# Altium footprint library BAS516.PcbLib: 3 footprints
Each footprint in its own frame and in the unit in brackets; x right, y up, seen from the top. Pads: shape width x height; smd on the part's side, far side on the other; paste and mask are expansions set on the pad; w line width, h text height; cw(c..) or ccw(c..) is an arc to the next point about the centre after c.
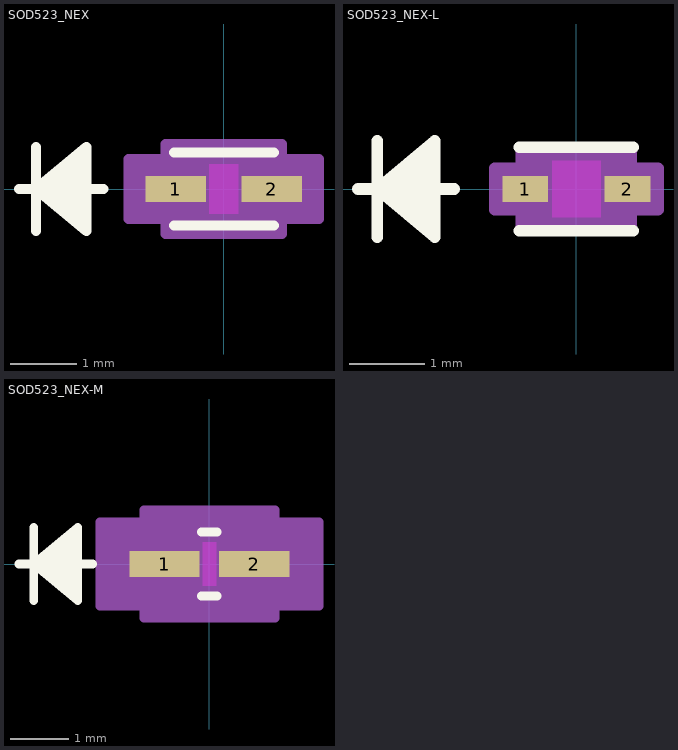
[diagram p0: the footprints below, top view; thin cyan lines are the x and y axes]

## SOD523_NEX [mm]
pads (2):
  rect 0.911x0.391 smd paste+0 mask+0: 1(-0.725,0) 2(0.725,0)
Top Overlay:
  lines w0.152: -3.086,0 -1.816,0 ; -2.832,-0.635 -2.832,0.635 ; -2.07,-0.508 -2.832,0 ; -2.07,-0.381 -2.832,0 ; -2.07,-0.254 -2.832,0 ; -2.07,-0.127 -2.832,0 ; -2.07,0.127 -2.832,0 ; -2.07,0.254 -2.832,0 ; -2.07,0.381 -2.832,0 ; -2.07,0.508 -2.832,0 ; -0.752,-0.552 0.752,-0.552 ; -0.752,0.552 0.752,0.552 ; -2.832,0 -2.07,0.635 -2.07,-0.635 -2.832,0
Keep-Out Layer:
  region: -0.219,-0.374 -0.219,0.374 0.219,0.374 0.219,-0.374
Mechanical 13:
  lines w0.025: -3.086,0 -1.816,0 ; -2.832,-0.635 -2.832,0.635 ; -2.07,-0.508 -2.832,0 ; -2.07,-0.381 -2.832,0 ; -2.07,-0.254 -2.832,0 ; -2.07,-0.127 -2.832,0 ; -2.07,0.127 -2.832,0 ; -2.07,0.254 -2.832,0 ; -2.07,0.381 -2.832,0 ; -2.07,0.508 -2.832,0 ; -0.625,-0.212 -0.413,-0.425 ; -0.625,0.212 -0.413,0.425 ; -2.832,0 -2.07,0.635 -2.07,-0.635 -2.832,0 ; -0.825,-0.17 -0.825,0.17 -0.625,0.17 -0.625,-0.17 -0.825,-0.17 ; -0.625,-0.425 0.625,-0.425 0.625,0.425 -0.625,0.425 -0.625,-0.425 ; 0.625,-0.17 0.625,0.17 0.825,0.17 0.825,-0.17 0.625,-0.17
Mechanical 15:
  region: -0.879,-0.449 -1.435,-0.449 -1.435,0.449 -0.879,0.449 -0.879,0.679 0.879,0.679 0.879,0.449 1.435,0.449 1.435,-0.449 0.879,-0.449 0.879,-0.679 -0.879,-0.679
  lines w0.152: -1.435,-0.449 -1.435,0.449 -0.879,0.449 -0.879,0.679 0.879,0.679 0.879,0.449 1.435,0.449 1.435,-0.449 0.879,-0.449 0.879,-0.679 -0.879,-0.679 -0.879,-0.449 -1.435,-0.449
3D body "SOD523_NEX.step": height 1.2, standoff 0, extent -0.905,-0.425 0.905,0.425

## SOD523_NEX-L [mm]
pads (2):
  rect 0.606x0.34 smd paste+0 mask+0: 1(-0.674,0) 2(0.674,0)
Top Overlay:
  lines w0.152: -2.882,0 -1.612,0 ; -2.628,-0.635 -2.628,0.635 ; -1.866,-0.508 -2.628,0 ; -1.866,-0.381 -2.628,0 ; -1.866,-0.254 -2.628,0 ; -1.866,-0.127 -2.628,0 ; -1.866,0.127 -2.628,0 ; -1.866,0.254 -2.628,0 ; -1.866,0.381 -2.628,0 ; -1.866,0.508 -2.628,0 ; -0.752,-0.552 0.752,-0.552 ; -0.752,0.552 0.752,0.552 ; -2.628,0 -1.866,0.635 -1.866,-0.635 -2.628,0
Keep-Out Layer:
  region: -0.32,-0.374 -0.32,0.374 0.32,0.374 0.32,-0.374
Mechanical 13:
  lines w0.025: -2.882,0 -1.612,0 ; -2.628,-0.635 -2.628,0.635 ; -1.866,-0.508 -2.628,0 ; -1.866,-0.381 -2.628,0 ; -1.866,-0.254 -2.628,0 ; -1.866,-0.127 -2.628,0 ; -1.866,0.127 -2.628,0 ; -1.866,0.254 -2.628,0 ; -1.866,0.381 -2.628,0 ; -1.866,0.508 -2.628,0 ; -0.625,-0.212 -0.413,-0.425 ; -0.625,0.212 -0.413,0.425 ; -2.628,0 -1.866,0.635 -1.866,-0.635 -2.628,0 ; -0.825,-0.17 -0.825,0.17 -0.625,0.17 -0.625,-0.17 -0.825,-0.17 ; -0.625,-0.425 0.625,-0.425 0.625,0.425 -0.625,0.425 -0.625,-0.425 ; 0.625,-0.17 0.625,0.17 0.825,0.17 0.825,-0.17 0.625,-0.17
Mechanical 15:
  region: -0.727,-0.272 -1.079,-0.272 -1.079,0.272 -0.727,0.272 -0.727,0.527 0.727,0.527 0.727,0.272 1.079,0.272 1.079,-0.272 0.727,-0.272 0.727,-0.527 -0.727,-0.527
  lines w0.152: -1.079,-0.272 -1.079,0.272 -0.727,0.272 -0.727,0.527 0.727,0.527 0.727,0.272 1.079,0.272 1.079,-0.272 0.727,-0.272 0.727,-0.527 -0.727,-0.527 -0.727,-0.272 -1.079,-0.272
3D body "SOD523_NEX.step": height 1.2, standoff 0, extent -0.905,-0.425 0.905,0.425

## SOD523_NEX-M [mm]
pads (2):
  rect 1.216x0.442 smd paste+0 mask+0: 1(-0.776,0) 2(0.776,0)
Top Overlay:
  lines w0.152: -3.289,0 -2.019,0 ; -3.035,-0.635 -3.035,0.635 ; -2.273,-0.508 -3.035,0 ; -2.273,-0.381 -3.035,0 ; -2.273,-0.254 -3.035,0 ; -2.273,-0.127 -3.035,0 ; -2.273,0.127 -3.035,0 ; -2.273,0.254 -3.035,0 ; -2.273,0.381 -3.035,0 ; -2.273,0.508 -3.035,0 ; -0.136,-0.552 0.136,-0.552 ; -0.136,0.552 0.136,0.552 ; -3.035,0 -2.273,0.635 -2.273,-0.635 -3.035,0
Keep-Out Layer:
  region: -0.117,-0.374 -0.117,0.374 0.117,0.374 0.117,-0.374
Mechanical 13:
  lines w0.025: -3.289,0 -2.019,0 ; -3.035,-0.635 -3.035,0.635 ; -2.273,-0.508 -3.035,0 ; -2.273,-0.381 -3.035,0 ; -2.273,-0.254 -3.035,0 ; -2.273,-0.127 -3.035,0 ; -2.273,0.127 -3.035,0 ; -2.273,0.254 -3.035,0 ; -2.273,0.381 -3.035,0 ; -2.273,0.508 -3.035,0 ; -0.625,-0.212 -0.413,-0.425 ; -0.625,0.212 -0.413,0.425 ; -3.035,0 -2.273,0.635 -2.273,-0.635 -3.035,0 ; -0.825,-0.17 -0.825,0.17 -0.625,0.17 -0.625,-0.17 -0.825,-0.17 ; -0.625,-0.425 0.625,-0.425 0.625,0.425 -0.625,0.425 -0.625,-0.425 ; 0.625,-0.17 0.625,0.17 0.825,0.17 0.825,-0.17 0.625,-0.17
Mechanical 15:
  region: -1.133,-0.729 -1.892,-0.729 -1.892,0.729 -1.133,0.729 -1.133,0.933 1.133,0.933 1.133,0.729 1.892,0.729 1.892,-0.729 1.133,-0.729 1.133,-0.933 -1.133,-0.933
  lines w0.152: -1.892,-0.729 -1.892,0.729 -1.133,0.729 -1.133,0.933 1.133,0.933 1.133,0.729 1.892,0.729 1.892,-0.729 1.133,-0.729 1.133,-0.933 -1.133,-0.933 -1.133,-0.729 -1.892,-0.729
3D body "SOD523_NEX.step": height 1.2, standoff 0, extent -0.905,-0.425 0.905,0.425